# Altium footprint library c-mote.PcbLib: 20 footprints (part 2 of 2)
Each footprint in its own frame and in the unit in brackets; x right, y up, seen from the top. Pads: shape width x height; smd on the part's side, far side on the other; paste and mask are expansions set on the pad; w line width, h text height; cw(c..) or ccw(c..) is an arc to the next point about the centre after c.
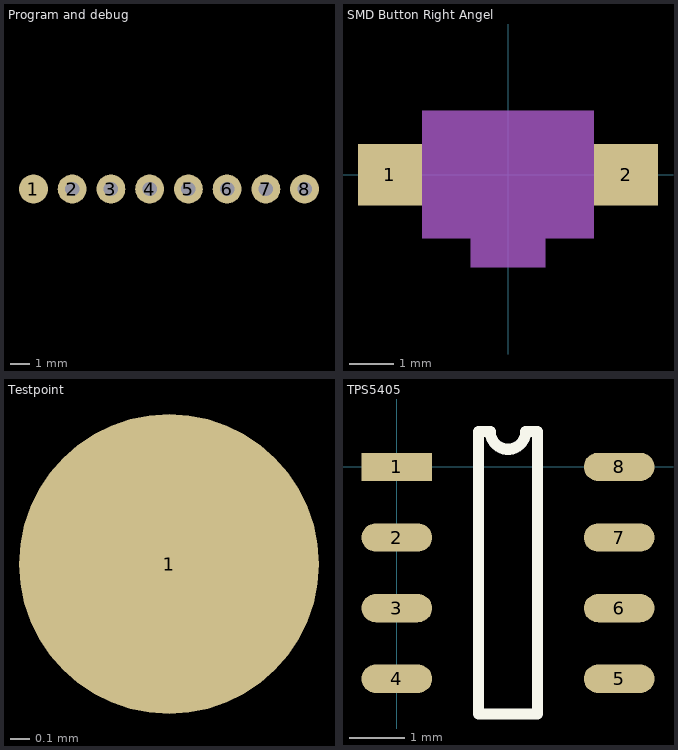
[diagram p1: the footprints below, top view; thin cyan lines are the x and y axes]

## Program and debug [mil]
pads (8):
  round 60 smd: 1(-49889.76,-49913.39)
  round 60 hole 30: 2(-49809.34,-49913.39) 3(-49728.91,-49913.39) 4(-49648.48,-49913.39) 5(-49568.05,-49913.39) 6(-49487.63,-49913.39) 7(-49407.2,-49913.39) 8(-49326.77,-49913.39)

## SMD Button Right Angel [mm]
height 3
pads (2):
  rect 1.45x1.4 all layers, no hole: 1(-2.675,0) 2(2.675,0)
Mechanical 1:
  rectangle: -0.85,-2.1 0.85,-1.45
  rectangle: -1.95,-1.45 1.95,1.45

## Testpoint [mm]
pads (1):
  round 1.524 smd: 1(-1266.2,-1267.2)

## TPS5405 [mm]
pads (8):
  rect 1.27x0.51 smd: 1(0,0)
  oval 1.27x0.51 smd: 2(0,-1.27) 3(0,-2.54) 4(0,-3.81) 5(4,-3.81) 6(4,-2.54) 7(4,-1.27) 8(4,0)
Top Overlay:
  lines w0.2: 1.47,-4.445 2.53,-4.445 2.53,0.635 2.317,0.635 cw(c2,0.635) 1.682,0.635 1.47,0.635 1.47,-4.445